# Altium schematic symbol library LTC4316CMS#PBF.SchLib: 2 symbols
Pins are listed as number, name and electrical type; pins without a type are passive.

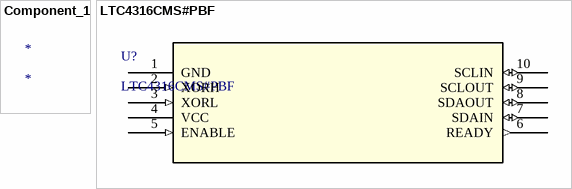
[diagram p0: symbols Component_1 to LTC4316CMS#PBF]

## Component_1
designator *

## LTC4316CMS#PBF
designator U?
No Description Available; Vendor: Linear Technology; Built_By: EMA_UL_Team; SourceLibrary: LinearTech_2016-05-13_6; Manufacturer_Part_Number: LTC4316CMS#PBF; Copyright: Copyright (C) 2018 Accelerated Designs. All rights reserved; RefDes: RefDes; Type: DEV
footprint MSOP-10_MS_LIT
pins: 1 GND (power), 2 XORH (in), 3 XORL (in), 4 VCC (power), 5 ENABLE (in), 6 READY (out), 7 SDAIN (io), 8 SDAOUT (io), 9 SCLOUT (io), 10 SCLIN (io)